# EAGLE library part FTR-B3 (library wolfi)
ULTRA MINIATURE RELAY 2 POLES - 2 A (Slim Profile Signal Relay) FUJITSU FTR-B4 SERIES Source: FTR-B4.pdf
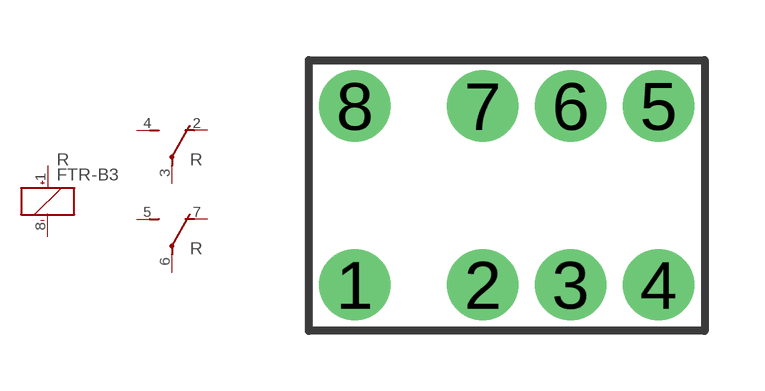
[diagram p17: symbol with the pads of FTR-B3C; footprint FTR-B3C]

Designator prefix R; gates K=K+- -1=U -2=U

## FTR-B3C  [FTR-B3C]
1  K:+  pas
2  -1:O  pas
3  -1:P  pas
4  -1:S  pas
5  -2:S  pas
6  -2:P  pas
7  -2:O  pas
8  K:-  pas

## Footprint FTR-B3C (pad centres in mm)
ULTRA MINIATURE RELAY 2 POLES - 2 A (Slim Profile Signal Relay) FUJITSU FTR-B4 SERIES Source: FTR-B4.pdf
drill 0.9 pad 1.778: 1 -3.8,-1.6; 2 -0.6,-1.6; 3 1.6,-1.6; 4 3.8,-1.6; 5 3.8,2.87; 6 1.6,2.87; 7 -0.6,2.87; 8 -3.8,2.87